# EAGLE library part PCM2704 (library toslink)
STEREO AUDIO DAC WITH USB INTERFACE, SINGLE-ENDED HEADPHONE OUTPUT AND S/PDIF OUTPUT
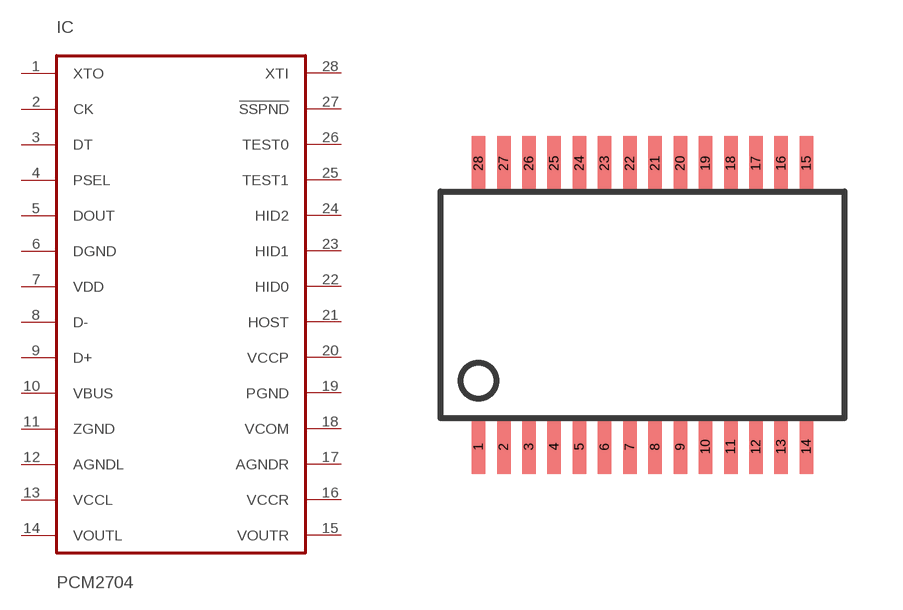
[diagram p4: symbol with the pads of SSOP28DB; footprint SSOP28DB]

Designator prefix IC

## PCM2704  [SSOP28DB]
1  XTO  out
2  CK  out
3  DT
4  PSEL  in
5  DOUT  out
6  DGND  pwr
7  VDD  pwr
8  D-
9  D+
10  VBUS  pwr
11  ZGND  pwr
12  AGNDL  pwr
13  VCCL  pwr
14  VOUTL  out
15  VOUTR  out
16  VCCR  pwr
17  AGNDR  pwr
18  VCOM  pwr
19  PGND  pwr
20  VCCP  pwr
21  HOST  in
22  HID0  in
23  HID1  in
24  HID2  in
25  TEST1  in
26  TEST0  in
27  !SSPND  out
28  XTI  in

## Footprint SSOP28DB (pad centres in mm)
Small Shrink Outline Package
smd 0.348 x 1.397: 1 -4.225,-3.656; 2 -3.575,-3.656; 3 -2.925,-3.656; 4 -2.275,-3.656; 5 -1.625,-3.656; 6 -0.975,-3.656; 7 -0.325,-3.656; 8 0.325,-3.656; 9 0.975,-3.656; 10 1.625,-3.656; 11 2.275,-3.656; 12 2.925,-3.656; 13 3.575,-3.656; 14 4.225,-3.656; 15 4.225,3.656; 16 3.575,3.656; 17 2.925,3.656; 18 2.275,3.656; 19 1.625,3.656; 20 0.975,3.656; 21 0.325,3.656; 22 -0.325,3.656; 23 -0.975,3.656; 24 -1.625,3.656; 25 -2.275,3.656; 26 -2.925,3.656; 27 -3.575,3.656; 28 -4.225,3.656